# Altium schematic symbol library InverterSCHLib.SchLib: 4 symbols
Pins are listed as number, name and electrical type; pins without a type are passive.

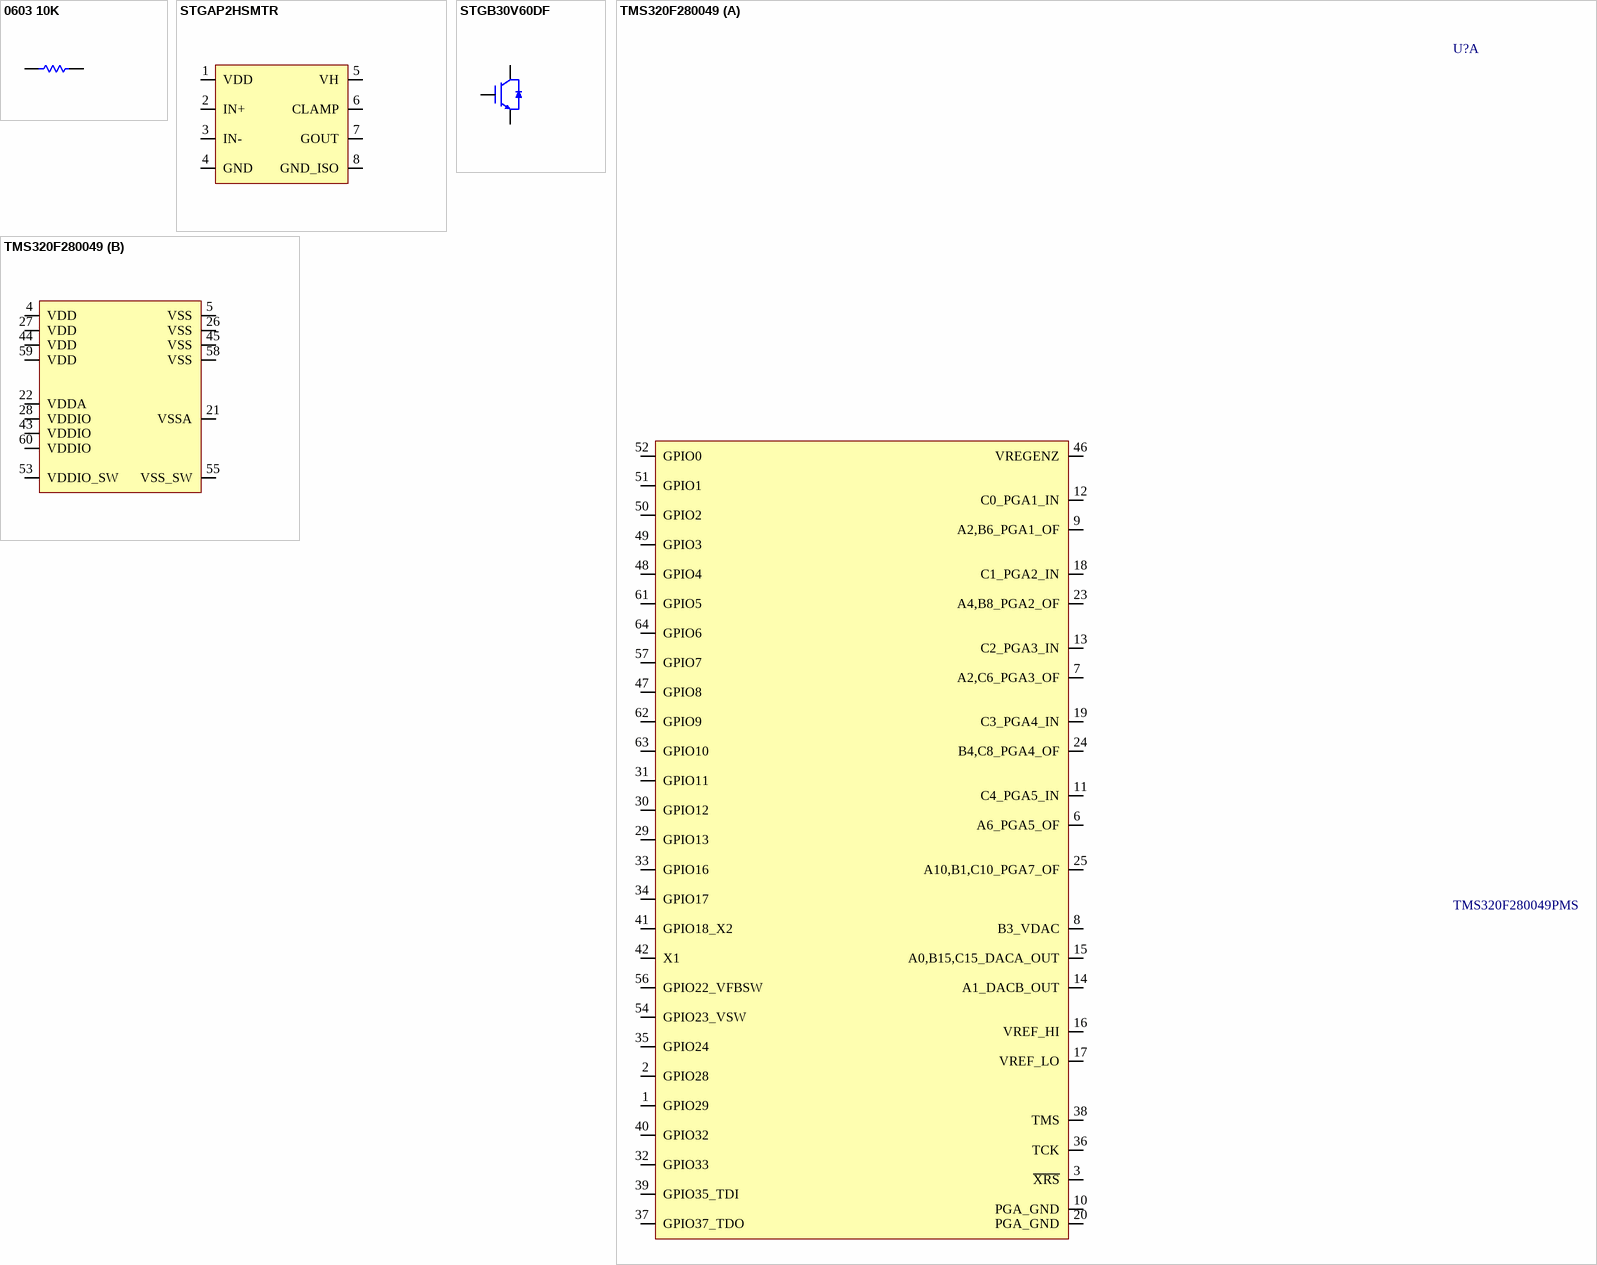
[diagram p0: symbols 0603 10K to TMS320F280049]

## 0603 10K
designator R?, comment 10K
RES SMD 10K OHM 5% 1/10W 0603
pins: 1, 2

## STGAP2HSMTR
designator U?
GALVANICALLY ISOLATED 4 A SINGLE GATE DRIVER; Manufacturer: Samtec; Manufacturer Part Number: ERF8-010-07.0-L-DV-L-K-TR; Supplier 1: Digi-Key; Stock 1: 498; Pricing 1: 1=3.01, 10=2.699, 25=2.5516, 100=2.2113, 250=2.09788, 500=1.88242 (USD); Supplier Part Number 1: 497-STGAP2HSMDKR-ND
footprint SO-8W (SOP, 8-Leads, Body 5.85x7.49mm, Pitch 1.27mm, IPC Medium Density)
pins: 1 VDD, 2 IN+, 3 IN-, 4 GND, 5 VH, 6 CLAMP, 7 GOUT, 8 GND_ISO

## STGB30V60DF
designator Q?
IGBT 600V 60A 258W D2PAK; Manufacturer: STMicroelectronics; Description: Trans IGBT Chip N-CH 600V 60A 3-Pin(2+Tab) D2PAK T/R; Reverse Recovery Time: 53ns; Element Configuration: Single; Collector Emitter Saturation Voltage: 1.85V; Supplier 1: Digi-Key; Manufacturer Part Number: STGB30V60DF; Stock 1: 916; Pricing 1: 1=2.43, 10=2.015, 25=1.9496, 100=1.604, 500=1.358 (USD); Mount: Surface Mount; Case/Package: TO-263-3; Weight: 0.079014oz; Min Operating Temperature: -55°C; Max Operating Temperature: 175°C; Packaging: Tape and Reel; Collector Emitter Voltage (VCEO): 600V; Max Collector Current: 60A; Max Power Dissipation: 258W; Collector Emitter Breakdown Voltage: 600V; Max Breakdown Voltage: 600V; Package Quantity: 1000; RoHS Compliant: Yes; ComponentLink1URL: http://www.st.com/content/ccc/resource/technical/document/datasheet/14/ad/1c/bd/db/a9/4a/fc/DM00079435.pdf/files/DM00079435.pdf/jcr:content/translations/en.DM00079435.pdf?src-supplier=Digi-Key; ComponentLink1Description: http://www.st.com/content/ccc/resource/technical/document/datasheet/14/ad/1c/bd/db/a9/4a/fc/DM00079435.pdf/files/DM00079435.pdf/jcr:content/translations/en.DM00079435.pdf?src-supplier=Digi-Key; ComponentLink2URL: http://www.mouser.com/ds/2/389/stgb30v60df-956007.pdf?src-supplier=Mouser; ComponentLink2Description: http://www.mouser.com/ds/2/389/stgb30v60df-956007.pdf?src-supplier=Mouser; ComponentLink3URL: http://www.st.com/st-web-ui/static/active/en/resource/technical/document/datasheet/DM00079435.pdf?src-supplier=Avnet; ComponentLink3Description: http://www.st.com/st-web-ui/static/active/en/resource/technical/document/datasheet/DM00079435.pdf?src-supplier=Avnet; ComponentLink4URL: http://components.arrow.com/part/dataview/0323_06933392?src-supplier=Arrow+Europe; ComponentLink4Description: http://components.arrow.com/part/dataview/0323_06933392?src-supplier=Arrow+Europe; Supplier Part Number 1: 497-15120-6-ND
footprint DPAK254P1542X460-3N (D2-PAK, 3-Pads, Body 7.78x8.56mm (max), IPC Medium Density)
pins: 1, 2, 3

## TMS320F280049
designator U?, comment TMS320F280049PMS
IC MCU 32BIT 256KB FLASH 64LQFP; Manufacturer: Texas Instruments; Manufacturer Part Number: F280049CPMS; Description: C2000™ 32-bit MCU with 100-MHz, FPU, TMU, 256-kb Flash, CLA, InstaSPIN-FOC, CLB, PGAs, SDFM 64-LQFP -40 to 125; Number of UART Channels: 2; Interface: I2C,SPI,UART,USART,SCI; Peripherals: Brown-out Detect/Reset,POR,PWM,WDT; Frequency: 100MHz; Number of I/Os: 26; Oscillator Type: Internal; Supplier 1: Mouser; Stock 1: 0; Pricing 1: 1=10.7, 10=9.68, 50=9.23, 100=8.01, 1000=6.07, 10000=6.07 (USD); Case/Package: LQFP; Min Operating Temperature: -40°C; Max Operating Temperature: 125°C; Memory Type: FLASH; Packaging: Tray; Memory Size: 256KB; RoHS Compliant: Yes; ComponentLink1URL: http://www.ti.com/lit/pdf/sprui33?src-supplier=Digi-Key; ComponentLink1Description: http://www.ti.com/lit/pdf/sprui33?src-supplier=Digi-Key; Supplier Part Number 1: 595-F280049CPMS
footprint 64QFP (TSQFP, 64-Leads, Body 10.00x10.00mm, Pitch 0.50mm, IPC Medium Density)
part A pins: 1 GPIO29, 2 GPIO28, 3 ~{XRS}, 6 A6_PGA5_OF, 7 A2,C6_PGA3_OF, 8 B3_VDAC, 9 A2,B6_PGA1_OF, 10 PGA_GND, 11 C4_PGA5_IN, 12 C0_PGA1_IN, 13 C2_PGA3_IN, 14 A1_DACB_OUT, 15 A0,B15,C15_DACA_OUT, 16 VREF_HI, 17 VREF_LO, 18 C1_PGA2_IN, 19 C3_PGA4_IN, 20 PGA_GND, 23 A4,B8_PGA2_OF, 24 B4,C8_PGA4_OF, 25 A10,B1,C10_PGA7_OF, 29 GPIO13, 30 GPIO12, 31 GPIO11, 32 GPIO33, 33 GPIO16, 34 GPIO17, 35 GPIO24, 36 TCK, 37 GPIO37_TDO, 38 TMS, 39 GPIO35_TDI, 40 GPIO32, 41 GPIO18_X2, 42 X1, 46 VREGENZ, 47 GPIO8, 48 GPIO4, 49 GPIO3, 50 GPIO2, 51 GPIO1, 52 GPIO0, 54 GPIO23_VSW, 56 GPIO22_VFBSW, 57 GPIO7, 61 GPIO5, 62 GPIO9, 63 GPIO10, 64 GPIO6
part B pins: 4 VDD, 5 VSS, 21 VSSA, 22 VDDA, 26 VSS, 27 VDD, 28 VDDIO, 43 VDDIO, 44 VDD, 45 VSS, 53 VDDIO_SW, 55 VSS_SW, 58 VSS, 59 VDD, 60 VDDIO